# Altium footprint library 电感.PcbLib: 63 footprints (part 1 of 4)
Each footprint in its own frame and in the unit in brackets; x right, y up, seen from the top. Pads: shape width x height; smd on the part's side, far side on the other; paste and mask are expansions set on the pad; w line width, h text height; cw(c..) or ccw(c..) is an arc to the next point about the centre after c.
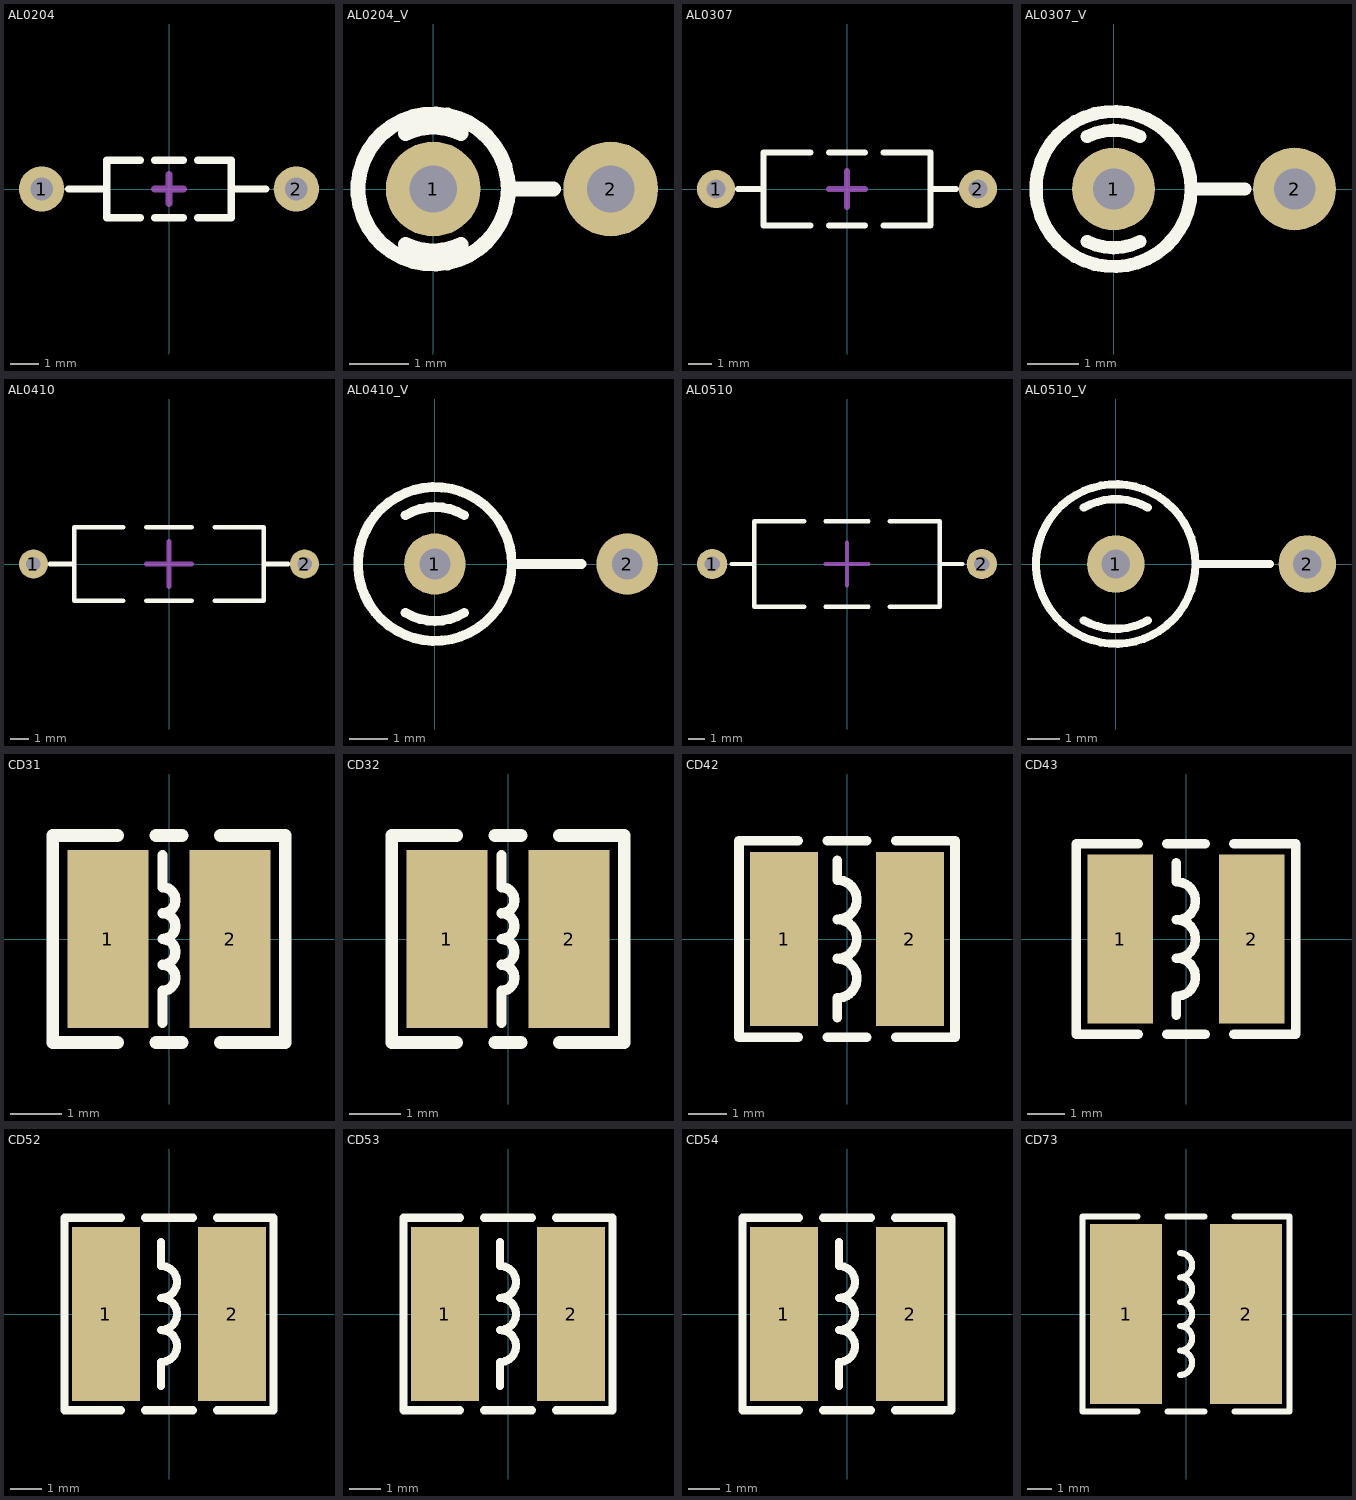
[diagram p0: the footprints below, top view; thin cyan lines are the x and y axes]

## AL0204 [mm] "9*2*4mm（脚距，直径，长度）"
pads (2):
  round 1.6 hole 0.8: 1(-4.5,0) 2(4.5,0)
Top Overlay:
  lines w0.254: -3.556,0 -2.2,0 ; -1.016,-1.016 -2.2,-1.016 -2.2,1.016 -1.016,1.016 ; -0.508,-1.016 0.508,-1.016 ; -0.508,1.016 0.508,1.016 ; 1.016,-1.016 2.2,-1.016 2.2,1.016 1.016,1.016 ; 2.2,0 3.429,0
Mechanical 15:
  lines w0.254: -0.508,0 0.508,0 ; 0,-0.508 0,0.508
3D body "AL0204.STEP": height 2.07, standoff -3.5, extent -4.75,-1.018 4.75,1.018

## AL0204_V [mm] "3*2*4mm（脚距，直径，长度）"
pads (2):
  round 1.6 hole 0.8: 1(0,0) 2(3,0)
Top Overlay:
  circle w0.254: c0,0 r1.27
  lines w0.254: -0.468,-0.937 ccw(c0,0) 0.468,-0.937 ; -0.468,0.937 cw(c0,0) 0.468,0.937 ; 1.27,0 2.032,0
3D body "AL0204_V.STEP": height 5.48, standoff -3.5, extent -1.009,-1.009 3.25,1.009

## AL0307 [mm] "11*3*7mm（脚距，直径，长度）"
pads (2):
  round 1.6 hole 0.8: 1(-5.5,0) 2(5.5,0)
Top Overlay:
  lines w0.254: -4.572,0 -3.5,0 ; -1.524,-1.524 -3.5,-1.524 -3.5,1.524 -1.524,1.524 ; -0.762,-1.524 0.762,-1.524 ; -0.762,1.524 0.762,1.524 ; 1.524,-1.524 3.5,-1.524 3.5,1.524 1.524,1.524 ; 3.5,0 4.572,0
Mechanical 15:
  lines w0.254: -0.762,0 0.762,0 ; 0,-0.762 0,0.762
3D body "AL0307.STEP": height 3.06, standoff -3.5, extent -5.775,-1.51 5.775,1.51

## AL0307_V [mm] "3.5*3*7mm（脚距，直径，长度）"
pads (2):
  round 1.6 hole 0.8: 1(0,0) 2(3.5,0)
Top Overlay:
  circle w0.254: c0,0 r1.5
  lines w0.254: -0.508,-1.016 ccw(c0,0) 0.508,-1.016 ; -0.508,1.016 cw(c0,0) 0.508,1.016 ; 1.5,0 2.54,0
3D body "AL0307_V.STEP": height 8.81, standoff -3.5, extent -1.522,-1.522 3.775,1.522

## AL0410 [mm] "15*4*10.5mm（脚距，直径，长度）"
pads (2):
  round 1.6 hole 0.8: 1(-7.5,0) 2(7.5,0)
Top Overlay:
  lines w0.254: -6.604,0 -5.25,0 ; -2.54,-2.032 -5.25,-2.032 -5.25,2.032 -2.54,2.032 ; -1.27,-2.032 1.27,-2.032 ; -1.27,2.032 1.27,2.032 ; 2.54,-2.032 5.25,-2.032 5.25,2.032 2.54,2.032 ; 5.25,0 6.604,0
Mechanical 15:
  lines w0.254: -1.27,0 1.27,0 ; 0,-1.27 0,1.27
3D body "AL0410.STEP": height 4.06, standoff -3.5, extent -7.775,-2.009 7.775,2.009

## AL0410_V [mm] "5*4*10.5mm（脚距，直径，长度）"
pads (2):
  round 1.6 hole 0.8: 1(0,0) 2(5,0)
Top Overlay:
  circle w0.254: c0,0 r2
  lines w0.254: -0.762,-1.27 ccw(c0,0) 0.762,-1.27 ; -0.762,1.27 cw(c0,0) 0.762,1.27 ; 2,0 3.81,0
3D body "AL0410_V.STEP": height 12.39, standoff -3.5, extent -2.01,-2.01 5.325,2.01

## AL0510 [mm] "16*5*10.5mm（脚距，直径，长度）"
pads (2):
  round 1.8 hole 0.9: 1(-8,0) 2(8,0)
Top Overlay:
  lines w0.254: -6.858,0 -5.5,0 ; -2.54,-2.54 -5.5,-2.54 -5.5,2.54 -2.54,2.54 ; -1.27,-2.54 1.27,-2.54 ; -1.27,2.54 1.27,2.54 ; 2.54,-2.54 5.5,-2.54 5.5,2.54 2.54,2.54 ; 5.5,0 6.858,0
Mechanical 15:
  lines w0.254: -1.27,0 1.27,0 ; 0,-1.27 0,1.27
3D body "AL0510.STEP": height 5.06, standoff -3.5, extent -8.35,-2.509 8.35,2.509

## AL0510_V [mm] "6*5*10.5mm（脚距，直径，长度）"
pads (2):
  round 1.8 hole 0.9: 1(0,0) 2(6,0)
Top Overlay:
  circle w0.254: c0,0 r2.5
  lines w0.254: -1.008,-1.764 ccw(c0,0) 1.008,-1.764 ; -1.008,1.764 cw(c0,0) 1.008,1.764 ; 2.5,0 4.826,0
3D body "AL0510_V.STEP": height 13.35, standoff -3.5, extent -2.51,-2.51 6.35,2.51

## CD31 [mm] "3.5*3*1mm（长宽高）"
pads (2):
  rect 1.6x3.5 smd: 1(-1.2,0) 2(1.2,0)
Top Overlay:
  lines w0.203: -0.127,-1.651 -0.127,-1.016 ccw(c-0.127,-0.762) -0.127,-0.508 ccw(c-0.127,-0.254) -0.127,0 ccw(c-0.127,0.254) -0.127,0.508 ccw(c-0.127,0.762) -0.127,1.016 -0.127,1.651
  lines w0.254: -1.016,-2.032 -2.286,-2.032 -2.286,2.032 -1.016,2.032 ; -0.254,-2.032 0.254,-2.032 ; -0.254,2.032 0.254,2.032 ; 1.016,-2.032 2.286,-2.032 2.286,2.032 1.016,2.032
3D body "CD31.STEP": height 1.2, standoff 0, extent -1.718,-1.5 1.718,1.5

## CD32 [mm] "3.5*3*2mm（长宽高）"
pads (2):
  rect 1.6x3.5 smd: 1(-1.2,0) 2(1.2,0)
Top Overlay:
  lines w0.203: -0.127,-1.651 -0.127,-1.016 ccw(c-0.127,-0.762) -0.127,-0.508 ccw(c-0.127,-0.254) -0.127,0 ccw(c-0.127,0.254) -0.127,0.508 ccw(c-0.127,0.762) -0.127,1.016 -0.127,1.651
  lines w0.254: -1.016,-2.032 -2.286,-2.032 -2.286,2.032 -1.016,2.032 ; -0.254,-2.032 0.254,-2.032 ; -0.254,2.032 0.254,2.032 ; 1.016,-2.032 2.286,-2.032 2.286,2.032 1.016,2.032
3D body "CD32.STEP": height 2.15, standoff 0.05, extent -1.707,-1.5 1.707,1.5

## CD42 [mm] "4.5*4*2mm（长宽高）"
pads (2):
  rect 1.75x4.5 smd: 1(-1.625,0) 2(1.625,0)
Top Overlay:
  lines w0.254: -1.27,-2.54 -2.794,-2.54 -2.794,2.54 -1.27,2.54 ; -0.508,-2.54 0.508,-2.54 ; -0.508,2.54 0.508,2.54 ; -0.254,-2.032 -0.254,-1.524 ccw(c-0.254,-1.016) -0.254,-0.508 ccw(c-0.254,0) -0.254,0.508 ccw(c-0.254,1.016) -0.254,1.524 -0.254,2.032 ; 1.27,-2.54 2.794,-2.54 2.794,2.54 1.27,2.54
3D body "CD42.STEP": height 2.1, standoff 0, extent -2.21,-2 2.21,2

## CD43 [mm] "4.5*4*3.2mm（长宽高）"
pads (2):
  rect 1.75x4.5 smd: 1(-1.75,0) 2(1.75,0)
Top Overlay:
  lines w0.254: -1.27,-2.54 -2.921,-2.54 -2.921,2.54 -1.27,2.54 ; -0.508,-2.54 0.508,-2.54 ; -0.508,2.54 0.508,2.54 ; -0.254,-2.032 -0.254,-1.524 ccw(c-0.254,-1.016) -0.254,-0.508 ccw(c-0.254,0) -0.254,0.508 ccw(c-0.254,1.016) -0.254,1.524 -0.254,2.032 ; 1.27,-2.54 2.921,-2.54 2.921,2.54 1.27,2.54
3D body "CD43.STEP": height 3.3, standoff 0, extent -2.21,-2 2.21,2

## CD52 [mm] "5.8*5.2*3mm（长宽高）"
pads (2):
  rect 2.15x5.5 smd: 1(-2,0) 2(2,0)
Top Overlay:
  lines w0.254: -1.524,-3.048 -3.302,-3.048 -3.302,3.048 -1.524,3.048 ; -0.762,-3.048 0.762,-3.048 ; -0.762,3.048 0.762,3.048 ; -0.254,-2.286 -0.254,-1.524 ccw(c-0.254,-1.016) -0.254,-0.508 ccw(c-0.254,0) -0.254,0.508 ccw(c-0.254,1.016) -0.254,1.524 -0.254,2.286 ; 1.524,-3.048 3.302,-3.048 3.302,3.048 1.524,3.048
3D body "CD52.STEP": height 3.2, standoff 0, extent -2.874,-2.5 2.874,2.5

## CD53 [mm] "5.8*5.2*3.5mm（长宽高）"
pads (2):
  rect 2.15x5.5 smd: 1(-2,0) 2(2,0)
Top Overlay:
  lines w0.254: -1.524,-3.048 -3.302,-3.048 -3.302,3.048 -1.524,3.048 ; -0.762,-3.048 0.762,-3.048 ; -0.762,3.048 0.762,3.048 ; -0.254,-2.286 -0.254,-1.524 ccw(c-0.254,-1.016) -0.254,-0.508 ccw(c-0.254,0) -0.254,0.508 ccw(c-0.254,1.016) -0.254,1.524 -0.254,2.286 ; 1.524,-3.048 3.302,-3.048 3.302,3.048 1.524,3.048
3D body "CD53.STEP": height 3.6, standoff 0, extent -2.874,-2.5 2.874,2.5

## CD54 [mm] "5.8*5.2*4.5mm（长宽高）"
pads (2):
  rect 2.15x5.5 smd: 1(-2,0) 2(2,0)
Top Overlay:
  lines w0.254: -1.524,-3.048 -3.302,-3.048 -3.302,3.048 -1.524,3.048 ; -0.762,-3.048 0.762,-3.048 ; -0.762,3.048 0.762,3.048 ; -0.254,-2.286 -0.254,-1.524 ccw(c-0.254,-1.016) -0.254,-0.508 ccw(c-0.254,0) -0.254,0.508 ccw(c-0.254,1.016) -0.254,1.524 -0.254,2.286 ; 1.524,-3.048 3.302,-3.048 3.302,3.048 1.524,3.048
3D body "CD54.STEP": height 4, standoff 0, extent -2.874,-2.5 2.874,2.5

## CD73 [mm] "7.8*7*3.5mm（长宽高）"
pads (2):
  rect 3x7.5 smd: 1(-2.5,0) 2(2.5,0)
Top Overlay:
  lines w0.254: -2.032,-4.064 -4.318,-4.064 -4.318,4.064 -2.032,4.064 ; -0.762,-4.064 0.762,-4.064 ; -0.762,4.064 0.762,4.064 ; -0.254,-2.54 ccw(c-0.254,-2.032) -0.254,-1.524 ccw(c-0.254,-1.016) -0.254,-0.508 ccw(c-0.254,0) -0.254,0.508 ccw(c-0.254,1.016) -0.254,1.524 ccw(c-0.254,2.032) -0.254,2.54 ; 2.032,-4.064 4.318,-4.064 4.318,4.064 2.032,4.064
3D body "CD73.STEP": height 3.75, standoff 0, extent -3.849,-3.5 3.849,3.5